# Altium integrated library Linear Technology Operational Amplifiers (LT2000-LT6000).IntLib: 1710 symbols (part 29 of 75)
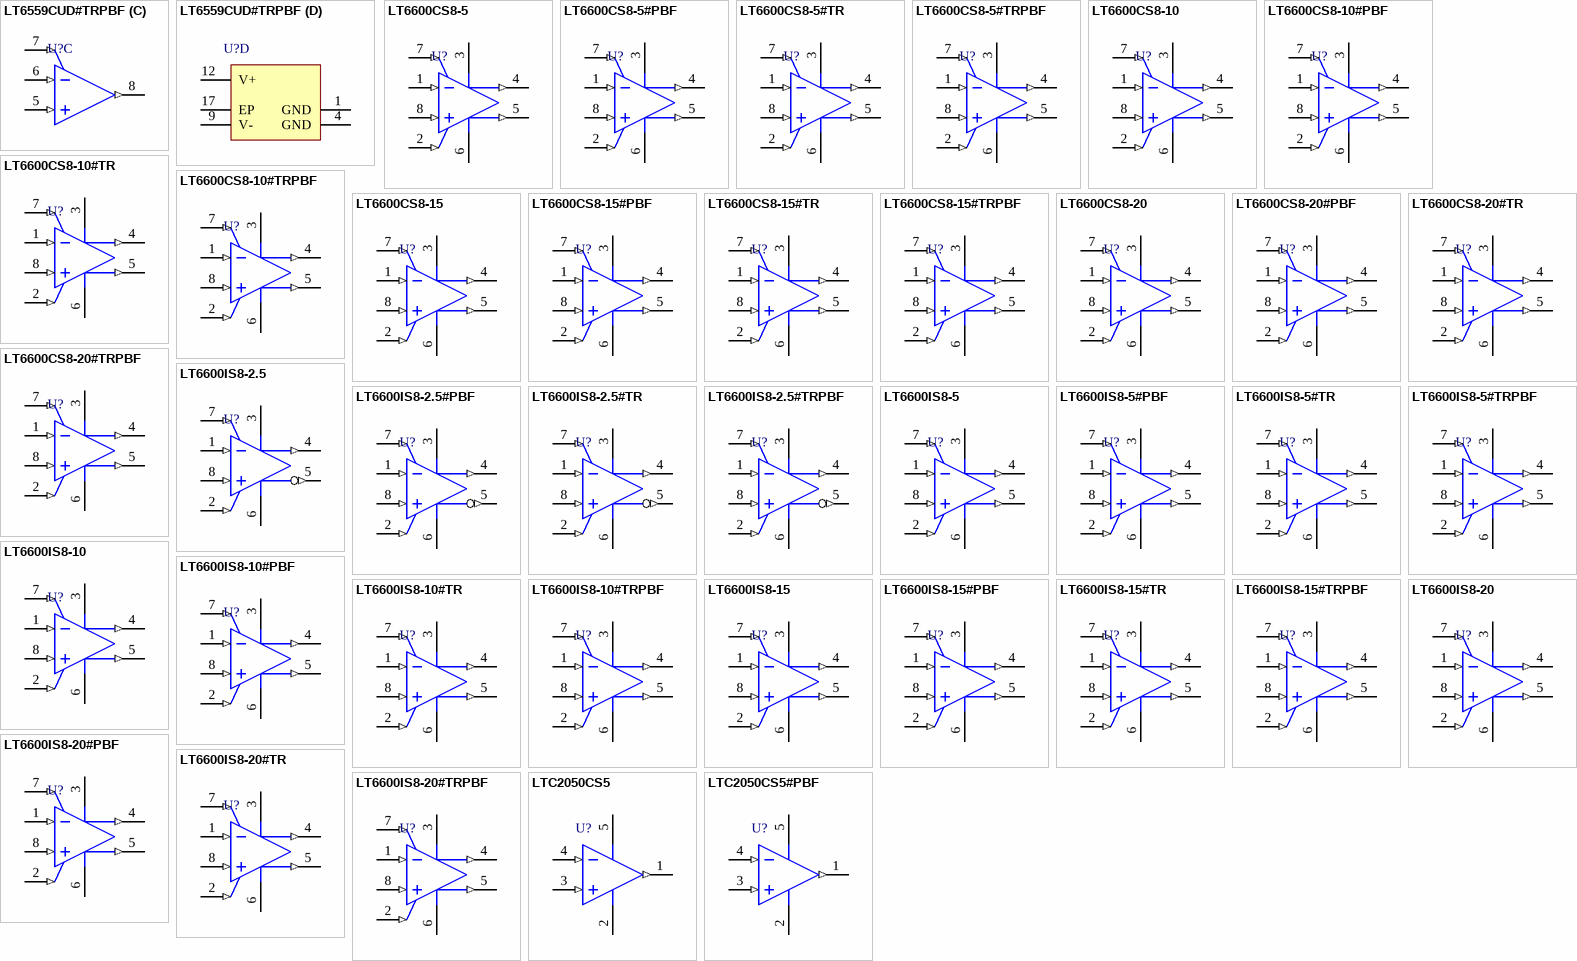
[diagram p108: symbols LT6559CUD#TRPBF to LTC2050CS5#PBF]

## LT6600IS8-15
designator U?
Single Channel, Very Low Noise, Differential Amplifier and 15 MHz Lowpass Filter, 15 MHz Typical GBW, 2.7 to 11 V, 8-Pin SOIC (S8-8), Industrial; Linear Technology Part Number: LT6600-15; Manufacturer: Linear Technology; PartNumber: LT6600IS8-15; Channels (#): 1; GBW (MHz) Typical: 15; Is (mA) Typical: 42; Vos (mV) Typical: 5; Vs Max (V): 11; Vs Min (V): 2.7; DatasheetVersion: Rev. B; PackageVersion: Rev G; PackageReference: LT-S8-8; PackageDescription: 8-Pin Plastic Small Outline, Body 4.9 x 3.9 mm, Pitch 1.27 mm; Type: DIFF; Mounting Technology: Surface Mount; ComponentLink1Description: Manufacturer URL; ComponentLink1URL: http://www.linear.com/; ComponentLink2Description: Datasheet; ComponentLink2URL: http://cds.linear.com/docs/en/datasheet/660015fb.pdf; ComponentLink3Description: Package Specification; ComponentLink3URL: http://cds.linear.com/docs/en/packaging/05081610_G_SO8.pdf
footprint LT-S8-8_N (SOIC, 8-Leads, Body 4.9x3.9mm, Pitch 1.27mm, IPC Medium Density)
footprint LT-S8-8_L (SOIC, 8-Leads, Body 4.9x3.9mm, Pitch 1.27mm, IPC High Density)
footprint LT-S8-8_M (SOIC, 8-Leads, Body 4.9x3.9mm, Pitch 1.27mm, IPC Low Density)
pins: 1 IN- (in) "Input Pins. Signals can be applied to either or both input pins through identical external resistors, RIN. The DC gain from differential inputs to the differential outputs is 1580ohm/RIN.", 2 VOCM (in) "Is the DC Common Mode Reference Voltage for the 2nd Filter Stage. Its value programs the common mode voltage of the differential output of the fi lter. This is a high impedance input, which can be driven from an external (See Datasheet)", 3 V+ (power) "Power Supply Pins. For a single 3.3V or 5V supply (V- grounded) a quality 0.1uF ceramic bypass capacitor is required from the positive supply pin (V+) to the negative supply pin (V-). The bypass should be as close as (See Datasheet)", 4 OUT+ (out) "Output Pins. These are the fi lter differential outputs. Each pin can drive a 100O and/or 50pF load to AC ground.", 5 OUT- (out) "Output Pins. These are the fi lter differential outputs. Each pin can drive a 100ohm and/or 50pF load to AC ground.", 6 V- (power) "Power Supply Pins. For a single 3.3V or 5V supply (V- grounded) a quality 0.1µF ceramic bypass capacitor is required from the positive supply pin (V+) to the negative supply pin (V-). The bypass should be as close as (See Datasheet)", 7 VMID (in) "The VMID pin is internally biased at mid-supply, see block diagram. For single-supply operation the VMID pin should be bypassed with a quality 0.01uF ceramic capacitor to V-. For dual supply operation, VMID can be bypassed (See Datasheet)", 8 IN+ (in) "Input Pins. Signals can be applied to either or both input pins through identical external resistors, RIN. The DC gain from differential inputs to the differential outputs is 1580ohm/RIN."

## LT6600IS8-15#PBF
designator U?
Single Channel, Very Low Noise, Differential Amplifier and 15 MHz Lowpass Filter, 15 MHz Typical GBW, 2.7 to 11 V, 8-Pin SOIC (S8-8), Industrial, Pb-Free; Linear Technology Part Number: LT6600-15; Manufacturer: Linear Technology; PartNumber: LT6600IS8-15#PBF; Channels (#): 1; GBW (MHz) Typical: 15; Is (mA) Typical: 42; Vos (mV) Typical: 5; Vs Max (V): 11; Vs Min (V): 2.7; DatasheetVersion: Rev. B; PackageVersion: Rev G; PackageReference: LT-S8-8; PackageDescription: 8-Pin Plastic Small Outline, Body 4.9 x 3.9 mm, Pitch 1.27 mm; Supplier 1: Digi-Key; Supplier Part Number 1: LT6600IS8-15#PBF-ND; RoHS: Pb-Free; Type: DIFF; Mounting Technology: Surface Mount; ComponentLink1Description: Manufacturer URL; ComponentLink1URL: http://www.linear.com/; ComponentLink2Description: Datasheet; ComponentLink2URL: http://cds.linear.com/docs/en/datasheet/660015fb.pdf; ComponentLink3Description: Package Specification; ComponentLink3URL: http://cds.linear.com/docs/en/packaging/05081610_G_SO8.pdf
footprint LT-S8-8_N (SOIC, 8-Leads, Body 4.9x3.9mm, Pitch 1.27mm, IPC Medium Density)
footprint LT-S8-8_L (SOIC, 8-Leads, Body 4.9x3.9mm, Pitch 1.27mm, IPC High Density)
footprint LT-S8-8_M (SOIC, 8-Leads, Body 4.9x3.9mm, Pitch 1.27mm, IPC Low Density)
pins: 1 IN- (in) "Input Pins. Signals can be applied to either or both input pins through identical external resistors, RIN. The DC gain from differential inputs to the differential outputs is 1580ohm/RIN.", 2 VOCM (in) "Is the DC Common Mode Reference Voltage for the 2nd Filter Stage. Its value programs the common mode voltage of the differential output of the fi lter. This is a high impedance input, which can be driven from an external (See Datasheet)", 3 V+ (power) "Power Supply Pins. For a single 3.3V or 5V supply (V- grounded) a quality 0.1uF ceramic bypass capacitor is required from the positive supply pin (V+) to the negative supply pin (V-). The bypass should be as close as (See Datasheet)", 4 OUT+ (out) "Output Pins. These are the fi lter differential outputs. Each pin can drive a 100O and/or 50pF load to AC ground.", 5 OUT- (out) "Output Pins. These are the fi lter differential outputs. Each pin can drive a 100ohm and/or 50pF load to AC ground.", 6 V- (power) "Power Supply Pins. For a single 3.3V or 5V supply (V- grounded) a quality 0.1µF ceramic bypass capacitor is required from the positive supply pin (V+) to the negative supply pin (V-). The bypass should be as close as (See Datasheet)", 7 VMID (in) "The VMID pin is internally biased at mid-supply, see block diagram. For single-supply operation the VMID pin should be bypassed with a quality 0.01uF ceramic capacitor to V-. For dual supply operation, VMID can be bypassed (See Datasheet)", 8 IN+ (in) "Input Pins. Signals can be applied to either or both input pins through identical external resistors, RIN. The DC gain from differential inputs to the differential outputs is 1580ohm/RIN."

## LT6600IS8-15#TR
designator U?
Single Channel, Very Low Noise, Differential Amplifier and 15 MHz Lowpass Filter, 15 MHz Typical GBW, 2.7 to 11 V, 8-Pin SOIC (S8-8), Industrial, Reel; Linear Technology Part Number: LT6600-15; Manufacturer: Linear Technology; PartNumber: LT6600IS8-15#TR; Channels (#): 1; GBW (MHz) Typical: 15; Is (mA) Typical: 42; Vos (mV) Typical: 5; Vs Max (V): 11; Vs Min (V): 2.7; DatasheetVersion: Rev. B; PackageVersion: Rev G; PackageReference: LT-S8-8; PackageDescription: 8-Pin Plastic Small Outline, Body 4.9 x 3.9 mm, Pitch 1.27 mm; Packing: Reel; Type: DIFF; Mounting Technology: Surface Mount; ComponentLink1Description: Manufacturer URL; ComponentLink1URL: http://www.linear.com/; ComponentLink2Description: Datasheet; ComponentLink2URL: http://cds.linear.com/docs/en/datasheet/660015fb.pdf; ComponentLink3Description: Package Specification; ComponentLink3URL: http://cds.linear.com/docs/en/packaging/05081610_G_SO8.pdf
footprint LT-S8-8_N (SOIC, 8-Leads, Body 4.9x3.9mm, Pitch 1.27mm, IPC Medium Density)
footprint LT-S8-8_L (SOIC, 8-Leads, Body 4.9x3.9mm, Pitch 1.27mm, IPC High Density)
footprint LT-S8-8_M (SOIC, 8-Leads, Body 4.9x3.9mm, Pitch 1.27mm, IPC Low Density)
pins: 1 IN- (in) "Input Pins. Signals can be applied to either or both input pins through identical external resistors, RIN. The DC gain from differential inputs to the differential outputs is 1580ohm/RIN.", 2 VOCM (in) "Is the DC Common Mode Reference Voltage for the 2nd Filter Stage. Its value programs the common mode voltage of the differential output of the fi lter. This is a high impedance input, which can be driven from an external (See Datasheet)", 3 V+ (power) "Power Supply Pins. For a single 3.3V or 5V supply (V- grounded) a quality 0.1uF ceramic bypass capacitor is required from the positive supply pin (V+) to the negative supply pin (V-). The bypass should be as close as (See Datasheet)", 4 OUT+ (out) "Output Pins. These are the fi lter differential outputs. Each pin can drive a 100O and/or 50pF load to AC ground.", 5 OUT- (out) "Output Pins. These are the fi lter differential outputs. Each pin can drive a 100ohm and/or 50pF load to AC ground.", 6 V- (power) "Power Supply Pins. For a single 3.3V or 5V supply (V- grounded) a quality 0.1µF ceramic bypass capacitor is required from the positive supply pin (V+) to the negative supply pin (V-). The bypass should be as close as (See Datasheet)", 7 VMID (in) "The VMID pin is internally biased at mid-supply, see block diagram. For single-supply operation the VMID pin should be bypassed with a quality 0.01uF ceramic capacitor to V-. For dual supply operation, VMID can be bypassed (See Datasheet)", 8 IN+ (in) "Input Pins. Signals can be applied to either or both input pins through identical external resistors, RIN. The DC gain from differential inputs to the differential outputs is 1580ohm/RIN."

## LT6600IS8-15#TRPBF
designator U?
Single Channel, Very Low Noise, Differential Amplifier and 15 MHz Lowpass Filter, 15 MHz Typical GBW, 2.7 to 11 V, 8-Pin SOIC (S8-8), Industrial, Pb-Free, Reel; Linear Technology Part Number: LT6600-15; Manufacturer: Linear Technology; PartNumber: LT6600IS8-15#TRPBF; Channels (#): 1; GBW (MHz) Typical: 15; Is (mA) Typical: 42; Vos (mV) Typical: 5; Vs Max (V): 11; Vs Min (V): 2.7; DatasheetVersion: Rev. B; PackageVersion: Rev G; PackageReference: LT-S8-8; PackageDescription: 8-Pin Plastic Small Outline, Body 4.9 x 3.9 mm, Pitch 1.27 mm; Supplier 1: Digi-Key; Supplier Part Number 1: LT6600IS8-15#TRPBF-ND; Packing: Reel; RoHS: Pb-Free; Type: DIFF; Mounting Technology: Surface Mount; ComponentLink1Description: Manufacturer URL; ComponentLink1URL: http://www.linear.com/; ComponentLink2Description: Datasheet; ComponentLink2URL: http://cds.linear.com/docs/en/datasheet/660015fb.pdf; ComponentLink3Description: Package Specification; ComponentLink3URL: http://cds.linear.com/docs/en/packaging/05081610_G_SO8.pdf
footprint LT-S8-8_N (SOIC, 8-Leads, Body 4.9x3.9mm, Pitch 1.27mm, IPC Medium Density)
footprint LT-S8-8_L (SOIC, 8-Leads, Body 4.9x3.9mm, Pitch 1.27mm, IPC High Density)
footprint LT-S8-8_M (SOIC, 8-Leads, Body 4.9x3.9mm, Pitch 1.27mm, IPC Low Density)
pins: 1 IN- (in) "Input Pins. Signals can be applied to either or both input pins through identical external resistors, RIN. The DC gain from differential inputs to the differential outputs is 1580ohm/RIN.", 2 VOCM (in) "Is the DC Common Mode Reference Voltage for the 2nd Filter Stage. Its value programs the common mode voltage of the differential output of the fi lter. This is a high impedance input, which can be driven from an external (See Datasheet)", 3 V+ (power) "Power Supply Pins. For a single 3.3V or 5V supply (V- grounded) a quality 0.1uF ceramic bypass capacitor is required from the positive supply pin (V+) to the negative supply pin (V-). The bypass should be as close as (See Datasheet)", 4 OUT+ (out) "Output Pins. These are the fi lter differential outputs. Each pin can drive a 100O and/or 50pF load to AC ground.", 5 OUT- (out) "Output Pins. These are the fi lter differential outputs. Each pin can drive a 100ohm and/or 50pF load to AC ground.", 6 V- (power) "Power Supply Pins. For a single 3.3V or 5V supply (V- grounded) a quality 0.1µF ceramic bypass capacitor is required from the positive supply pin (V+) to the negative supply pin (V-). The bypass should be as close as (See Datasheet)", 7 VMID (in) "The VMID pin is internally biased at mid-supply, see block diagram. For single-supply operation the VMID pin should be bypassed with a quality 0.01uF ceramic capacitor to V-. For dual supply operation, VMID can be bypassed (See Datasheet)", 8 IN+ (in) "Input Pins. Signals can be applied to either or both input pins through identical external resistors, RIN. The DC gain from differential inputs to the differential outputs is 1580ohm/RIN."

## LT6600IS8-20
designator U?
Single Channel, Very Low Noise, Differential Amplifier and 20 MHz Lowpass Filter, 20 MHz Typical GBW, 2.7 to 11 V, 8-Pin SOIC (S8-8), Industrial; Linear Technology Part Number: LT6600-20; Manufacturer: Linear Technology; PartNumber: LT6600IS8-20; Channels (#): 1; GBW (MHz) Typical: 20; Is (mA) Typical: 42; Vos (mV) Typical: 5; Vs Max (V): 11; Vs Min (V): 2.7; DatasheetVersion: Rev. B; PackageVersion: Rev G; PackageReference: LT-S8-8; PackageDescription: 8-Pin Plastic Small Outline, Body 4.9 x 3.9 mm, Pitch 1.27 mm; Supplier 1: Digi-Key; Supplier Part Number 1: LT6600IS8-20-ND; Type: DIFF; Mounting Technology: Surface Mount; ComponentLink1Description: Manufacturer URL; ComponentLink1URL: http://www.linear.com/; ComponentLink2Description: Datasheet; ComponentLink2URL: http://cds.linear.com/docs/en/datasheet/66002fb.pdf; ComponentLink3Description: Package Specification; ComponentLink3URL: http://cds.linear.com/docs/en/packaging/05081610_G_SO8.pdf
footprint LT-S8-8_N (SOIC, 8-Leads, Body 4.9x3.9mm, Pitch 1.27mm, IPC Medium Density)
footprint LT-S8-8_L (SOIC, 8-Leads, Body 4.9x3.9mm, Pitch 1.27mm, IPC High Density)
footprint LT-S8-8_M (SOIC, 8-Leads, Body 4.9x3.9mm, Pitch 1.27mm, IPC Low Density)
pins: 1 IN- (in) "Input Pins. Signals can be applied to either or both input pins through identical external resistors, RIN. The DC gain from differential inputs to the differential outputs is 402ohm/RIN.", 2 VOCM (in) "Is the DC Common Mode Reference Voltage for the 2nd Filter Stage. Its value programs the common mode voltage of the differential output of the fi lter. Pin 2 is a high impedance input, which can be driven from an external (See Datasheet)", 3 V+ (power) "Power Supply Pins. For a single 3.3V or 5V supply (Pin 6 grounded) a quality 0.1uF ceramic bypass capacitor is required from the positive supply pin (Pin 3) to the negative supply pin (Pin 6). The bypass should be as close (See Datasheet)", 4 OUT+ (out) "Output Pins. Pins 4 and 5 are the filter differential outputs. Each pin can drive a 100ohm and/or 50pF load.", 5 OUT- (out) "Output Pins. Pins 4 and 5 are the filter differential outputs. Each pin can drive a 100ohm and/or 50pF load.", 6 V- (power) "Power Supply Pins. For a single 3.3V or 5V supply (Pin 6 grounded) a quality 0.1uF ceramic bypass capacitor is required from the positive supply pin (Pin 3) to the negative supply pin (Pin 6). The bypass should be as close (See Datasheet)", 7 VMID (in) "The VMID pin is internally biased at mid-supply, see Block Diagram. For single supply operation, the VMID pin should be bypassed with a quality 0.01uF ceramic capacitor to V-. For dual supply operation, VMID can be bypassed (See Datasheet)", 8 IN+ (in) "Input Pins. Signals can be applied to either or both input pins through identical external resistors, RIN. The DC gain from differential inputs to the differential outputs is 402ohm/RIN."

## LT6600IS8-20#PBF
designator U?
Single Channel, Very Low Noise, Differential Amplifier and 20 MHz Lowpass Filter, 20 MHz Typical GBW, 2.7 to 11 V, 8-Pin SOIC (S8-8), Industrial, Pb-Free; Linear Technology Part Number: LT6600-20; Manufacturer: Linear Technology; PartNumber: LT6600IS8-20#PBF; Channels (#): 1; GBW (MHz) Typical: 20; Is (mA) Typical: 42; Vos (mV) Typical: 5; Vs Max (V): 11; Vs Min (V): 2.7; DatasheetVersion: Rev. B; PackageVersion: Rev G; PackageReference: LT-S8-8; PackageDescription: 8-Pin Plastic Small Outline, Body 4.9 x 3.9 mm, Pitch 1.27 mm; Supplier 1: Digi-Key; Supplier Part Number 1: LT6600IS8-20#PBF-ND; Supplier 2: Farnell; Supplier Part Number 2: 1345587; Supplier 3: Newark; Supplier Part Number 3: 57M9588; RoHS: Pb-Free; Type: DIFF; Mounting Technology: Surface Mount; ComponentLink1Description: Manufacturer URL; ComponentLink1URL: http://www.linear.com/; ComponentLink2Description: Datasheet; ComponentLink2URL: http://cds.linear.com/docs/en/datasheet/66002fb.pdf; ComponentLink3Description: Package Specification; ComponentLink3URL: http://cds.linear.com/docs/en/packaging/05081610_G_SO8.pdf
footprint LT-S8-8_N (SOIC, 8-Leads, Body 4.9x3.9mm, Pitch 1.27mm, IPC Medium Density)
footprint LT-S8-8_L (SOIC, 8-Leads, Body 4.9x3.9mm, Pitch 1.27mm, IPC High Density)
footprint LT-S8-8_M (SOIC, 8-Leads, Body 4.9x3.9mm, Pitch 1.27mm, IPC Low Density)
pins: 1 IN- (in) "Input Pins. Signals can be applied to either or both input pins through identical external resistors, RIN. The DC gain from differential inputs to the differential outputs is 402ohm/RIN.", 2 VOCM (in) "Is the DC Common Mode Reference Voltage for the 2nd Filter Stage. Its value programs the common mode voltage of the differential output of the fi lter. Pin 2 is a high impedance input, which can be driven from an external (See Datasheet)", 3 V+ (power) "Power Supply Pins. For a single 3.3V or 5V supply (Pin 6 grounded) a quality 0.1uF ceramic bypass capacitor is required from the positive supply pin (Pin 3) to the negative supply pin (Pin 6). The bypass should be as close (See Datasheet)", 4 OUT+ (out) "Output Pins. Pins 4 and 5 are the filter differential outputs. Each pin can drive a 100ohm and/or 50pF load.", 5 OUT- (out) "Output Pins. Pins 4 and 5 are the filter differential outputs. Each pin can drive a 100ohm and/or 50pF load.", 6 V- (power) "Power Supply Pins. For a single 3.3V or 5V supply (Pin 6 grounded) a quality 0.1uF ceramic bypass capacitor is required from the positive supply pin (Pin 3) to the negative supply pin (Pin 6). The bypass should be as close (See Datasheet)", 7 VMID (in) "The VMID pin is internally biased at mid-supply, see Block Diagram. For single supply operation, the VMID pin should be bypassed with a quality 0.01uF ceramic capacitor to V-. For dual supply operation, VMID can be bypassed (See Datasheet)", 8 IN+ (in) "Input Pins. Signals can be applied to either or both input pins through identical external resistors, RIN. The DC gain from differential inputs to the differential outputs is 402ohm/RIN."

## LT6600IS8-20#TR
designator U?
Single Channel, Very Low Noise, Differential Amplifier and 20 MHz Lowpass Filter, 20 MHz Typical GBW, 2.7 to 11 V, 8-Pin SOIC (S8-8), Industrial, Reel; Linear Technology Part Number: LT6600-20; Manufacturer: Linear Technology; PartNumber: LT6600IS8-20#TR; Channels (#): 1; GBW (MHz) Typical: 20; Is (mA) Typical: 42; Vos (mV) Typical: 5; Vs Max (V): 11; Vs Min (V): 2.7; DatasheetVersion: Rev. B; PackageVersion: Rev G; PackageReference: LT-S8-8; PackageDescription: 8-Pin Plastic Small Outline, Body 4.9 x 3.9 mm, Pitch 1.27 mm; Supplier 1: Digi-Key; Supplier Part Number 1: LT6600IS8-20#TR-ND; Packing: Reel; Type: DIFF; Mounting Technology: Surface Mount; ComponentLink1Description: Manufacturer URL; ComponentLink1URL: http://www.linear.com/; ComponentLink2Description: Datasheet; ComponentLink2URL: http://cds.linear.com/docs/en/datasheet/66002fb.pdf; ComponentLink3Description: Package Specification; ComponentLink3URL: http://cds.linear.com/docs/en/packaging/05081610_G_SO8.pdf
footprint LT-S8-8_N (SOIC, 8-Leads, Body 4.9x3.9mm, Pitch 1.27mm, IPC Medium Density)
footprint LT-S8-8_L (SOIC, 8-Leads, Body 4.9x3.9mm, Pitch 1.27mm, IPC High Density)
footprint LT-S8-8_M (SOIC, 8-Leads, Body 4.9x3.9mm, Pitch 1.27mm, IPC Low Density)
pins: 1 IN- (in) "Input Pins. Signals can be applied to either or both input pins through identical external resistors, RIN. The DC gain from differential inputs to the differential outputs is 402ohm/RIN.", 2 VOCM (in) "Is the DC Common Mode Reference Voltage for the 2nd Filter Stage. Its value programs the common mode voltage of the differential output of the fi lter. Pin 2 is a high impedance input, which can be driven from an external (See Datasheet)", 3 V+ (power) "Power Supply Pins. For a single 3.3V or 5V supply (Pin 6 grounded) a quality 0.1uF ceramic bypass capacitor is required from the positive supply pin (Pin 3) to the negative supply pin (Pin 6). The bypass should be as close (See Datasheet)", 4 OUT+ (out) "Output Pins. Pins 4 and 5 are the filter differential outputs. Each pin can drive a 100ohm and/or 50pF load.", 5 OUT- (out) "Output Pins. Pins 4 and 5 are the filter differential outputs. Each pin can drive a 100ohm and/or 50pF load.", 6 V- (power) "Power Supply Pins. For a single 3.3V or 5V supply (Pin 6 grounded) a quality 0.1uF ceramic bypass capacitor is required from the positive supply pin (Pin 3) to the negative supply pin (Pin 6). The bypass should be as close (See Datasheet)", 7 VMID (in) "The VMID pin is internally biased at mid-supply, see Block Diagram. For single supply operation, the VMID pin should be bypassed with a quality 0.01uF ceramic capacitor to V-. For dual supply operation, VMID can be bypassed (See Datasheet)", 8 IN+ (in) "Input Pins. Signals can be applied to either or both input pins through identical external resistors, RIN. The DC gain from differential inputs to the differential outputs is 402ohm/RIN."

## LT6600IS8-20#TRPBF
designator U?
Single Channel, Very Low Noise, Differential Amplifier and 20 MHz Lowpass Filter, 20 MHz Typical GBW, 2.7 to 11 V, 8-Pin SOIC (S8-8), Industrial, Pb-Free, Reel; Linear Technology Part Number: LT6600-5; Manufacturer: Linear Technology; PartNumber: LT6600IS8-20#TRPBF; Channels (#): 1; GBW (MHz) Typical: 5; Is (mA) Typical: 28; Vs Max (V): 11; Vs Min (V): 2.7; DatasheetVersion: Rev. B; PackageVersion: Rev G; PackageReference: LT-S8-8; PackageDescription: 8-Pin Plastic Small Outline, Body 4.9 x 3.9 mm, Pitch 1.27 mm; Supplier 1: Digi-Key; Supplier Part Number 1: LT6600IS8-20#TRPBF-ND; Packing: Reel; RoHS: Pb-Free; Type: DIFF; Vos (mV) Typical: 5; Mounting Technology: Surface Mount; ComponentLink1Description: Manufacturer URL; ComponentLink1URL: http://www.linear.com/; ComponentLink2Description: Datasheet; ComponentLink2URL: http://cds.linear.com/docs/en/datasheet/66002fb.pdf; ComponentLink3Description: Package Specification; ComponentLink3URL: http://cds.linear.com/docs/en/packaging/05081610_G_SO8.pdf
footprint LT-S8-8_N (SOIC, 8-Leads, Body 4.9x3.9mm, Pitch 1.27mm, IPC Medium Density)
footprint LT-S8-8_L (SOIC, 8-Leads, Body 4.9x3.9mm, Pitch 1.27mm, IPC High Density)
footprint LT-S8-8_M (SOIC, 8-Leads, Body 4.9x3.9mm, Pitch 1.27mm, IPC Low Density)
pins: 1 IN- (in) "Input Pins. Signals can be applied to either or both input pins through identical external resistors, RIN. The DC gain from differential inputs to the differential outputs is 402ohm/RIN.", 2 VOCM (in) "Is the DC Common Mode Reference Voltage for the 2nd Filter Stage. Its value programs the common mode voltage of the differential output of the fi lter. Pin 2 is a high impedance input, which can be driven from an external (See Datasheet)", 3 V+ (power) "Power Supply Pins. For a single 3.3V or 5V supply (Pin 6 grounded) a quality 0.1uF ceramic bypass capacitor is required from the positive supply pin (Pin 3) to the negative supply pin (Pin 6). The bypass should be as close (See Datasheet)", 4 OUT+ (out) "Output Pins. Pins 4 and 5 are the filter differential outputs. Each pin can drive a 100ohm and/or 50pF load.", 5 OUT- (out) "Output Pins. Pins 4 and 5 are the filter differential outputs. Each pin can drive a 100ohm and/or 50pF load.", 6 V- (power) "Power Supply Pins. For a single 3.3V or 5V supply (Pin 6 grounded) a quality 0.1uF ceramic bypass capacitor is required from the positive supply pin (Pin 3) to the negative supply pin (Pin 6). The bypass should be as close (See Datasheet)", 7 VMID (in) "The VMID pin is internally biased at mid-supply, see Block Diagram. For single supply operation, the VMID pin should be bypassed with a quality 0.01uF ceramic capacitor to V-. For dual supply operation, VMID can be bypassed (See Datasheet)", 8 IN+ (in) "Input Pins. Signals can be applied to either or both input pins through identical external resistors, RIN. The DC gain from differential inputs to the differential outputs is 402ohm/RIN."

## LTC2050CS5
designator U?
Single Channel, Zero-Drift Operational Amplifier, 3 MHz Typical GBW, 2 V/us Typical SR, 2.7 to 6 V, 5-Pin SOT23 (S5-5), Commercial; Linear Technology Part Number: LTC2050; Manufacturer: Linear Technology; PartNumber: LTC2050CS5; Channels (#): 1; GBW (MHz) Typical: 3; Is (mA) Typical: 0.8; SR (V/us) Typical: 2; Vos (mV) Typical: 0.0005; Vs Max (V): 6; Vs Min (V): 2.7; DatasheetVersion: Rev C; PackageReference: LT-S5-5-TSOT-23; PackageDescription: 5-Lead Plastic TSOT-23, Body 1.63 x 2.90 mm, Pitch 0.95 mm; Type: ZD; Mounting Technology: Surface Mount; Code_JEDEC: MO-193; ComponentLink1Description: Manufacturer URL; ComponentLink1URL: http://www.linear.com/; ComponentLink2Description: Datasheet; ComponentLink2URL: http://cds.linear.com/docs/en/datasheet/2050fc.pdf; ComponentLink3Description: Package Specification; ComponentLink3URL: http://cds.linear.com/docs/en/packaging/SOT_5_05-08-1635.pdf
footprint LT-S5-5-TSOT-23_N (SOT23, 5-Leads, Body 2.90x1.63mm, Pitch 0.95mm, IPC Medium Density)
footprint LT-S5-5-TSOT-23_L (SOT23, 5-Leads, Body 2.90x1.63mm, Pitch 0.95mm, IPC High Density)
footprint LT-S5-5-TSOT-23_M (SOT23, 5-Leads, Body 2.90x1.63mm, Pitch 0.95mm, IPC Low Density)
pins: 1 OUT (out) "Output.", 2 V- (power) "Negative Supply Voltage, Usually -5V.", 3 +IN (in) "Noninverting Input.", 4 -IN (in) "Inverting Input.", 5 V+ (power) "Positive Supply Voltage, Usually 5V."

## LTC2050CS5#PBF
designator U?
Single Channel, Zero-Drift Operational Amplifier, 3 MHz Typical GBW, 2 V/us Typical SR, 2.7 to 6 V, 5-Pin SOT23 (S5-5), Commercial, Pb-Free; Linear Technology Part Number: LTC2050; Manufacturer: Linear Technology; PartNumber: LTC2050CS5#PBF; Channels (#): 1; GBW (MHz) Typical: 3; Is (mA) Typical: 0.8; SR (V/us) Typical: 2; Vos (mV) Typical: 0.0005; Vs Max (V): 6; Vs Min (V): 2.7; DatasheetVersion: Rev C; PackageReference: LT-S5-5-TSOT-23; PackageDescription: 5-Lead Plastic TSOT-23, Body 1.63 x 2.90 mm, Pitch 0.95 mm; RoHS: Pb-Free; Type: ZD; Mounting Technology: Surface Mount; Code_JEDEC: MO-193; ComponentLink1Description: Manufacturer URL; ComponentLink1URL: http://www.linear.com/; ComponentLink2Description: Datasheet; ComponentLink2URL: http://cds.linear.com/docs/en/datasheet/2050fc.pdf; ComponentLink3Description: Package Specification; ComponentLink3URL: http://cds.linear.com/docs/en/packaging/SOT_5_05-08-1635.pdf
footprint LT-S5-5-TSOT-23_N (SOT23, 5-Leads, Body 2.90x1.63mm, Pitch 0.95mm, IPC Medium Density)
footprint LT-S5-5-TSOT-23_L (SOT23, 5-Leads, Body 2.90x1.63mm, Pitch 0.95mm, IPC High Density)
footprint LT-S5-5-TSOT-23_M (SOT23, 5-Leads, Body 2.90x1.63mm, Pitch 0.95mm, IPC Low Density)
pins: 1 OUT (out) "Output.", 2 V- (power) "Negative Supply Voltage, Usually -5V.", 3 +IN (in) "Noninverting Input.", 4 -IN (in) "Inverting Input.", 5 V+ (power) "Positive Supply Voltage, Usually 5V."

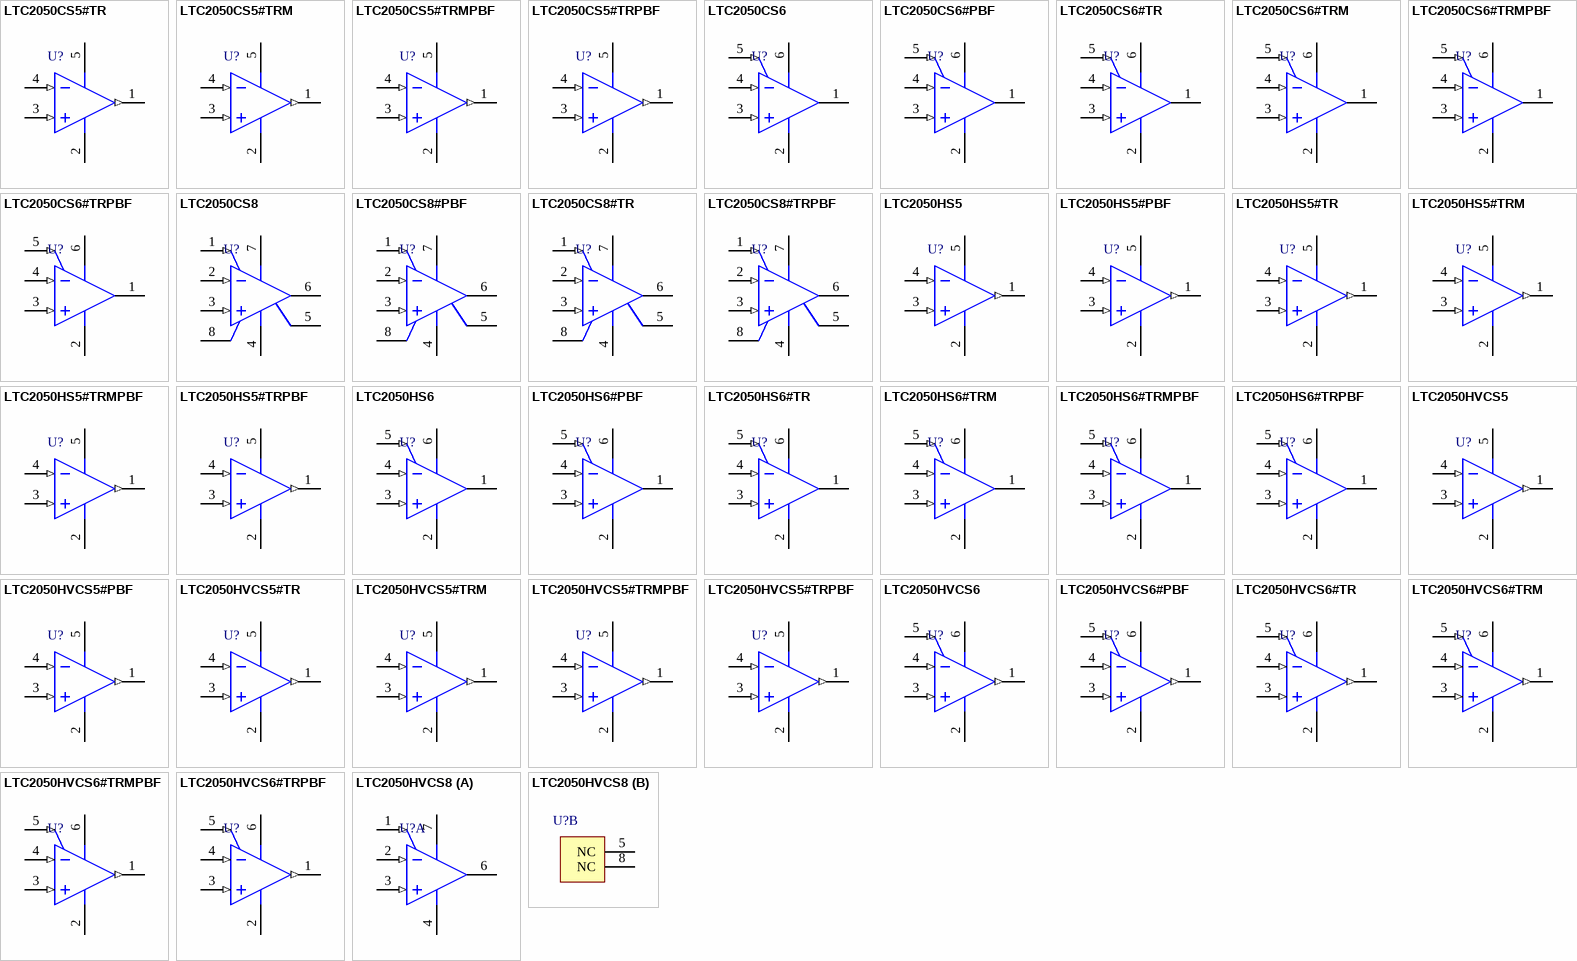
[diagram p36: symbols LTC2050CS5#TR to LTC2050HVCS8]

## LTC2050CS5#TR
designator U?
Single Channel, Zero-Drift Operational Amplifier, 3 MHz Typical GBW, 2 V/us Typical SR, 2.7 to 6 V, 5-Pin SOT23 (S5-5), Commercial, Reel; Linear Technology Part Number: LTC2050; Manufacturer: Linear Technology; PartNumber: LTC2050CS5#TR; Channels (#): 1; GBW (MHz) Typical: 3; Is (mA) Typical: 0.8; SR (V/us) Typical: 2; Vos (mV) Typical: 0.0005; Vs Max (V): 6; Vs Min (V): 2.7; DatasheetVersion: Rev C; PackageReference: LT-S5-5-TSOT-23; PackageDescription: 5-Lead Plastic TSOT-23, Body 1.63 x 2.90 mm, Pitch 0.95 mm; Supplier 1: Digi-Key; Supplier Part Number 1: LTC2050CS5#TR-ND; Packing: Reel; Type: ZD; Mounting Technology: Surface Mount; Code_JEDEC: MO-193; ComponentLink1Description: Manufacturer URL; ComponentLink1URL: http://www.linear.com/; ComponentLink2Description: Datasheet; ComponentLink2URL: http://cds.linear.com/docs/en/datasheet/2050fc.pdf; ComponentLink3Description: Package Specification; ComponentLink3URL: http://cds.linear.com/docs/en/packaging/SOT_5_05-08-1635.pdf
footprint LT-S5-5-TSOT-23_N (SOT23, 5-Leads, Body 2.90x1.63mm, Pitch 0.95mm, IPC Medium Density)
footprint LT-S5-5-TSOT-23_L (SOT23, 5-Leads, Body 2.90x1.63mm, Pitch 0.95mm, IPC High Density)
footprint LT-S5-5-TSOT-23_M (SOT23, 5-Leads, Body 2.90x1.63mm, Pitch 0.95mm, IPC Low Density)
pins: 1 OUT (out) "Output.", 2 V- (power) "Negative Supply Voltage, Usually -5V.", 3 +IN (in) "Noninverting Input.", 4 -IN (in) "Inverting Input.", 5 V+ (power) "Positive Supply Voltage, Usually 5V."

## LTC2050CS5#TRM
designator U?
Single Channel, Zero-Drift Operational Amplifier, 3 MHz Typical GBW, 2 V/us Typical SR, 2.7 to 6 V, 5-Pin SOT23 (S5-5), Commercial, Mini Reel; Linear Technology Part Number: LTC2050; Manufacturer: Linear Technology; PartNumber: LTC2050CS5#TRM; Channels (#): 1; GBW (MHz) Typical: 3; Is (mA) Typical: 0.8; SR (V/us) Typical: 2; Vos (mV) Typical: 0.0005; Vs Max (V): 6; Vs Min (V): 2.7; DatasheetVersion: Rev C; PackageReference: LT-S5-5-TSOT-23; PackageDescription: 5-Lead Plastic TSOT-23, Body 1.63 x 2.90 mm, Pitch 0.95 mm; Supplier 1: Digi-Key; Supplier Part Number 1: LTC2050CS5#TRM-ND; Packing: Mini Reel; Type: ZD; Mounting Technology: Surface Mount; Code_JEDEC: MO-193; ComponentLink1Description: Manufacturer URL; ComponentLink1URL: http://www.linear.com/; ComponentLink2Description: Datasheet; ComponentLink2URL: http://cds.linear.com/docs/en/datasheet/2050fc.pdf; ComponentLink3Description: Package Specification; ComponentLink3URL: http://cds.linear.com/docs/en/packaging/SOT_5_05-08-1635.pdf
footprint LT-S5-5-TSOT-23_N (SOT23, 5-Leads, Body 2.90x1.63mm, Pitch 0.95mm, IPC Medium Density)
footprint LT-S5-5-TSOT-23_L (SOT23, 5-Leads, Body 2.90x1.63mm, Pitch 0.95mm, IPC High Density)
footprint LT-S5-5-TSOT-23_M (SOT23, 5-Leads, Body 2.90x1.63mm, Pitch 0.95mm, IPC Low Density)
pins: 1 OUT (out) "Output.", 2 V- (power) "Negative Supply Voltage, Usually -5V.", 3 +IN (in) "Noninverting Input.", 4 -IN (in) "Inverting Input.", 5 V+ (power) "Positive Supply Voltage, Usually 5V."

## LTC2050CS5#TRMPBF
designator U?
Single Channel, Zero-Drift Operational Amplifier, 3 MHz Typical GBW, 2 V/us Typical SR, 2.7 to 6 V, 5-Pin SOT23 (S5-5), Commercial, Pb-Free, Mini Reel; Linear Technology Part Number: LTC2050; Manufacturer: Linear Technology; PartNumber: LTC2050CS5#TRMPBF; Channels (#): 1; GBW (MHz) Typical: 3; Is (mA) Typical: 0.8; SR (V/us) Typical: 2; Vos (mV) Typical: 0.0005; Vs Max (V): 6; Vs Min (V): 2.7; DatasheetVersion: Rev C; PackageReference: LT-S5-5-TSOT-23; PackageDescription: 5-Lead Plastic TSOT-23, Body 1.63 x 2.90 mm, Pitch 0.95 mm; Supplier 1: Digi-Key; Supplier Part Number 1: LTC2050CS5#TRMPBFTR-ND; Supplier 2: Digi-Key; Supplier Part Number 2: LTC2050CS5#TRMPBFCT-ND; Supplier 3: Digi-Key; Supplier Part Number 3: LTC2050CS5#TRMPBFDKR-ND; Supplier 4: Farnell; Supplier Part Number 4: 1663874; Packing: Mini Reel; RoHS: Pb-Free; Type: ZD; Mounting Technology: Surface Mount; Code_JEDEC: MO-193; ComponentLink1Description: Manufacturer URL; ComponentLink1URL: http://www.linear.com/; ComponentLink2Description: Datasheet; ComponentLink2URL: http://cds.linear.com/docs/en/datasheet/2050fc.pdf; ComponentLink3Description: Package Specification; ComponentLink3URL: http://cds.linear.com/docs/en/packaging/SOT_5_05-08-1635.pdf
footprint LT-S5-5-TSOT-23_N (SOT23, 5-Leads, Body 2.90x1.63mm, Pitch 0.95mm, IPC Medium Density)
footprint LT-S5-5-TSOT-23_L (SOT23, 5-Leads, Body 2.90x1.63mm, Pitch 0.95mm, IPC High Density)
footprint LT-S5-5-TSOT-23_M (SOT23, 5-Leads, Body 2.90x1.63mm, Pitch 0.95mm, IPC Low Density)
pins: 1 OUT (out) "Output.", 2 V- (power) "Negative Supply Voltage, Usually -5V.", 3 +IN (in) "Noninverting Input.", 4 -IN (in) "Inverting Input.", 5 V+ (power) "Positive Supply Voltage, Usually 5V."

## LTC2050CS5#TRPBF
designator U?
Single Channel, Zero-Drift Operational Amplifier, 3 MHz Typical GBW, 2 V/us Typical SR, 2.7 to 6 V, 5-Pin SOT23 (S5-5), Commercial, Pb-Free, Reel; Linear Technology Part Number: LTC2050; Manufacturer: Linear Technology; PartNumber: LTC2050CS5#TRPBF; Channels (#): 1; GBW (MHz) Typical: 3; Is (mA) Typical: 0.8; SR (V/us) Typical: 2; Vos (mV) Typical: 0.0005; Vs Max (V): 6; Vs Min (V): 2.7; DatasheetVersion: Rev C; PackageReference: LT-S5-5-TSOT-23; PackageDescription: 5-Lead Plastic TSOT-23, Body 1.63 x 2.90 mm, Pitch 0.95 mm; Supplier 1: Digi-Key; Supplier Part Number 1: LTC2050CS5#TRPBF-ND; Packing: Reel; RoHS: Pb-Free; Type: ZD; Mounting Technology: Surface Mount; Code_JEDEC: MO-193; ComponentLink1Description: Manufacturer URL; ComponentLink1URL: http://www.linear.com/; ComponentLink2Description: Datasheet; ComponentLink2URL: http://cds.linear.com/docs/en/datasheet/2050fc.pdf; ComponentLink3Description: Package Specification; ComponentLink3URL: http://cds.linear.com/docs/en/packaging/SOT_5_05-08-1635.pdf
footprint LT-S5-5-TSOT-23_N (SOT23, 5-Leads, Body 2.90x1.63mm, Pitch 0.95mm, IPC Medium Density)
footprint LT-S5-5-TSOT-23_L (SOT23, 5-Leads, Body 2.90x1.63mm, Pitch 0.95mm, IPC High Density)
footprint LT-S5-5-TSOT-23_M (SOT23, 5-Leads, Body 2.90x1.63mm, Pitch 0.95mm, IPC Low Density)
pins: 1 OUT (out) "Output.", 2 V- (power) "Negative Supply Voltage, Usually -5V.", 3 +IN (in) "Noninverting Input.", 4 -IN (in) "Inverting Input.", 5 V+ (power) "Positive Supply Voltage, Usually 5V."

## LTC2050CS6
designator U?
Single Channel, Zero-Drift Operational Amplifier, 3 MHz Typical GBW, 2 V/us Typical SR, 2.7 to 6 V, 6-Pin SOT23 (S6-6), Commercial; Linear Technology Part Number: LTC2050; Manufacturer: Linear Technology; PartNumber: LTC2050CS6; Channels (#): 1; GBW (MHz) Typical: 3; Is (mA) Typical: 0.8; SR (V/us) Typical: 2; Vos (mV) Typical: 0.0005; Vs Max (V): 6; Vs Min (V): 2.7; DatasheetVersion: Rev C; PackageReference: LT-S6-6-TSOT-23; PackageDescription: 6-Pin Plastic TSOT-23, Body 2.9 x 1.63 mm, Pitch 0.95 mm; Type: ZD; Mounting Technology: Surface Mount; Code_JEDEC: MO-193; ComponentLink1Description: Manufacturer URL; ComponentLink1URL: http://www.linear.com/; ComponentLink2Description: Datasheet; ComponentLink2URL: http://cds.linear.com/docs/en/datasheet/2050fc.pdf; ComponentLink3Description: Package Specification; ComponentLink3URL: http://cds.linear.com/docs/en/packaging/SOT_6_05-08-1636.pdf
footprint LT-S6-6-TSOT-23_N (SOT23, 6-Leads, Body 2.90x1.63mm, Pitch 0.95mm, IPC Medium Density)
footprint LT-S6-6-TSOT-23_L (SOT23, 6-Leads, Body 2.90x1.63mm, Pitch 0.95mm, IPC High Density)
footprint LT-S6-6-TSOT-23_M (SOT23, 6-Leads, Body 2.90x1.63mm, Pitch 0.95mm, IPC Low Density)
pins: 1 OUT (hiz), 2 V- (power), 3 +IN (in), 4 -IN (in), 5 ~{SHDN} (in), 6 V+ (power)

## LTC2050CS6#PBF
designator U?
Single Channel, Zero-Drift Operational Amplifier, 3 MHz Typical GBW, 2 V/us Typical SR, 2.7 to 6 V, 6-Pin SOT23 (S6-6), Commercial, Pb-Free; Linear Technology Part Number: LTC2050; Manufacturer: Linear Technology; PartNumber: LTC2050CS6#PBF; Channels (#): 1; GBW (MHz) Typical: 3; Is (mA) Typical: 0.8; SR (V/us) Typical: 2; Vos (mV) Typical: 0.0005; Vs Max (V): 6; Vs Min (V): 2.7; DatasheetVersion: Rev C; PackageReference: LT-S6-6-TSOT-23; PackageDescription: 6-Pin Plastic TSOT-23, Body 2.9 x 1.63 mm, Pitch 0.95 mm; Supplier 1: Farnell; Supplier Part Number 1: 2294713; RoHS: Pb-Free; Type: ZD; Mounting Technology: Surface Mount; Code_JEDEC: MO-193; ComponentLink1Description: Manufacturer URL; ComponentLink1URL: http://www.linear.com/; ComponentLink2Description: Datasheet; ComponentLink2URL: http://cds.linear.com/docs/en/datasheet/2050fc.pdf; ComponentLink3Description: Package Specification; ComponentLink3URL: http://cds.linear.com/docs/en/packaging/SOT_6_05-08-1636.pdf
footprint LT-S6-6-TSOT-23_N (SOT23, 6-Leads, Body 2.90x1.63mm, Pitch 0.95mm, IPC Medium Density)
footprint LT-S6-6-TSOT-23_L (SOT23, 6-Leads, Body 2.90x1.63mm, Pitch 0.95mm, IPC High Density)
footprint LT-S6-6-TSOT-23_M (SOT23, 6-Leads, Body 2.90x1.63mm, Pitch 0.95mm, IPC Low Density)
pins: 1 OUT (hiz), 2 V- (power), 3 +IN (in), 4 -IN (in), 5 ~{SHDN} (in), 6 V+ (power)

## LTC2050CS6#TR
designator U?
Single Channel, Zero-Drift Operational Amplifier, 3 MHz Typical GBW, 2 V/us Typical SR, 2.7 to 6 V, 6-Pin SOT23 (S6-6), Commercial, Reel; Linear Technology Part Number: LTC2050; Manufacturer: Linear Technology; PartNumber: LTC2050CS6#TR; Channels (#): 1; GBW (MHz) Typical: 3; Is (mA) Typical: 0.8; SR (V/us) Typical: 2; Vos (mV) Typical: 0.0005; Vs Max (V): 6; Vs Min (V): 2.7; DatasheetVersion: Rev C; PackageReference: LT-S6-6-TSOT-23; PackageDescription: 6-Pin Plastic TSOT-23, Body 2.9 x 1.63 mm, Pitch 0.95 mm; Supplier 1: Digi-Key; Supplier Part Number 1: LTC2050CS6#TR-ND; Packing: Reel; Type: ZD; Mounting Technology: Surface Mount; Code_JEDEC: MO-193; ComponentLink1Description: Manufacturer URL; ComponentLink1URL: http://www.linear.com/; ComponentLink2Description: Datasheet; ComponentLink2URL: http://cds.linear.com/docs/en/datasheet/2050fc.pdf; ComponentLink3Description: Package Specification; ComponentLink3URL: http://cds.linear.com/docs/en/packaging/SOT_6_05-08-1636.pdf
footprint LT-S6-6-TSOT-23_N (SOT23, 6-Leads, Body 2.90x1.63mm, Pitch 0.95mm, IPC Medium Density)
footprint LT-S6-6-TSOT-23_L (SOT23, 6-Leads, Body 2.90x1.63mm, Pitch 0.95mm, IPC High Density)
footprint LT-S6-6-TSOT-23_M (SOT23, 6-Leads, Body 2.90x1.63mm, Pitch 0.95mm, IPC Low Density)
pins: 1 OUT (hiz), 2 V- (power), 3 +IN (in), 4 -IN (in), 5 ~{SHDN} (in), 6 V+ (power)

## LTC2050CS6#TRM
designator U?
Single Channel, Zero-Drift Operational Amplifier, 3 MHz Typical GBW, 2 V/us Typical SR, 2.7 to 6 V, 6-Pin SOT23 (S6-6), Commercial, Mini Reel; Linear Technology Part Number: LTC2050; Manufacturer: Linear Technology; PartNumber: LTC2050CS6#TRM; Channels (#): 1; GBW (MHz) Typical: 3; Is (mA) Typical: 0.8; SR (V/us) Typical: 2; Vos (mV) Typical: 0.0005; Vs Max (V): 6; Vs Min (V): 2.7; DatasheetVersion: Rev C; PackageReference: LT-S6-6-TSOT-23; PackageDescription: 6-Pin Plastic TSOT-23, Body 2.9 x 1.63 mm, Pitch 0.95 mm; Supplier 1: Digi-Key; Supplier Part Number 1: LTC2050CS6#TRM-ND; Packing: Mini Reel; Type: ZD; Mounting Technology: Surface Mount; Code_JEDEC: MO-193; ComponentLink1Description: Manufacturer URL; ComponentLink1URL: http://www.linear.com/; ComponentLink2Description: Datasheet; ComponentLink2URL: http://cds.linear.com/docs/en/datasheet/2050fc.pdf; ComponentLink3Description: Package Specification; ComponentLink3URL: http://cds.linear.com/docs/en/packaging/SOT_6_05-08-1636.pdf
footprint LT-S6-6-TSOT-23_N (SOT23, 6-Leads, Body 2.90x1.63mm, Pitch 0.95mm, IPC Medium Density)
footprint LT-S6-6-TSOT-23_L (SOT23, 6-Leads, Body 2.90x1.63mm, Pitch 0.95mm, IPC High Density)
footprint LT-S6-6-TSOT-23_M (SOT23, 6-Leads, Body 2.90x1.63mm, Pitch 0.95mm, IPC Low Density)
pins: 1 OUT (hiz), 2 V- (power), 3 +IN (in), 4 -IN (in), 5 ~{SHDN} (in), 6 V+ (power)

## LTC2050CS6#TRMPBF
designator U?
Single Channel, Zero-Drift Operational Amplifier, 3 MHz Typical GBW, 2 V/us Typical SR, 2.7 to 6 V, 6-Pin SOT23 (S6-6), Commercial, Pb-Free, Mini Reel; Linear Technology Part Number: LTC2050; Manufacturer: Linear Technology; PartNumber: LTC2050CS6#TRMPBF; Channels (#): 1; GBW (MHz) Typical: 3; Is (mA) Typical: 0.8; SR (V/us) Typical: 2; Vos (mV) Typical: 0.0005; Vs Max (V): 6; Vs Min (V): 2.7; DatasheetVersion: Rev C; PackageReference: LT-S6-6-TSOT-23; PackageDescription: 6-Pin Plastic TSOT-23, Body 2.9 x 1.63 mm, Pitch 0.95 mm; Supplier 1: Digi-Key; Supplier Part Number 1: LTC2050CS6#TRMPBF-ND; Packing: Mini Reel; RoHS: Pb-Free; Type: ZD; Mounting Technology: Surface Mount; Code_JEDEC: MO-193; ComponentLink1Description: Manufacturer URL; ComponentLink1URL: http://www.linear.com/; ComponentLink2Description: Datasheet; ComponentLink2URL: http://cds.linear.com/docs/en/datasheet/2050fc.pdf; ComponentLink3Description: Package Specification; ComponentLink3URL: http://cds.linear.com/docs/en/packaging/SOT_6_05-08-1636.pdf
footprint LT-S6-6-TSOT-23_N (SOT23, 6-Leads, Body 2.90x1.63mm, Pitch 0.95mm, IPC Medium Density)
footprint LT-S6-6-TSOT-23_L (SOT23, 6-Leads, Body 2.90x1.63mm, Pitch 0.95mm, IPC High Density)
footprint LT-S6-6-TSOT-23_M (SOT23, 6-Leads, Body 2.90x1.63mm, Pitch 0.95mm, IPC Low Density)
pins: 1 OUT (hiz), 2 V- (power), 3 +IN (in), 4 -IN (in), 5 ~{SHDN} (in), 6 V+ (power)

## LTC2050CS6#TRPBF
designator U?
Single Channel, Zero-Drift Operational Amplifier, 3 MHz Typical GBW, 2 V/us Typical SR, 2.7 to 6 V, 6-Pin SOT23 (S6-6), Commercial, Pb-Free, Reel; Linear Technology Part Number: LTC2050; Manufacturer: Linear Technology; PartNumber: LTC2050CS6#TRPBF; Channels (#): 1; GBW (MHz) Typical: 3; Is (mA) Typical: 0.8; SR (V/us) Typical: 2; Vos (mV) Typical: 0.0005; Vs Max (V): 6; Vs Min (V): 2.7; DatasheetVersion: Rev C; PackageReference: LT-S6-6-TSOT-23; PackageDescription: 6-Pin Plastic TSOT-23, Body 2.9 x 1.63 mm, Pitch 0.95 mm; Supplier 1: Digi-Key; Supplier Part Number 1: LTC2050CS6#TRPBF-ND; Packing: Reel; RoHS: Pb-Free; Type: ZD; Mounting Technology: Surface Mount; Code_JEDEC: MO-193; ComponentLink1Description: Manufacturer URL; ComponentLink1URL: http://www.linear.com/; ComponentLink2Description: Datasheet; ComponentLink2URL: http://cds.linear.com/docs/en/datasheet/2050fc.pdf; ComponentLink3Description: Package Specification; ComponentLink3URL: http://cds.linear.com/docs/en/packaging/SOT_6_05-08-1636.pdf
footprint LT-S6-6-TSOT-23_N (SOT23, 6-Leads, Body 2.90x1.63mm, Pitch 0.95mm, IPC Medium Density)
footprint LT-S6-6-TSOT-23_L (SOT23, 6-Leads, Body 2.90x1.63mm, Pitch 0.95mm, IPC High Density)
footprint LT-S6-6-TSOT-23_M (SOT23, 6-Leads, Body 2.90x1.63mm, Pitch 0.95mm, IPC Low Density)
pins: 1 OUT (hiz), 2 V- (power), 3 +IN (in), 4 -IN (in), 5 ~{SHDN} (in), 6 V+ (power)

## LTC2050CS8
designator U?
Single Channel, Zero-Drift Operational Amplifier, 3 MHz Typical GBW, 2 V/us Typical SR, 2.7 to 6 V, 8-Pin SOIC (S8-8), Commercial; Linear Technology Part Number: LTC2050; Manufacturer: Linear Technology; PartNumber: LTC2050CS8; Channels (#): 1; GBW (MHz) Typical: 3; Is (mA) Typical: 0.8; SR (V/us) Typical: 2; Vos (mV) Typical: 0.0005; Vs Max (V): 6; Vs Min (V): 2.7; DatasheetVersion: Rev C; PackageVersion: Rev G; PackageReference: LT-S8-8; PackageDescription: 8-Pin Plastic Small Outline, Body 4.9 x 3.9 mm, Pitch 1.27 mm; Supplier 1: Digi-Key; Supplier Part Number 1: LTC2050CS8-ND; Type: ZD; Mounting Technology: Surface Mount; ComponentLink1Description: Manufacturer URL; ComponentLink1URL: http://www.linear.com/; ComponentLink2Description: Datasheet; ComponentLink2URL: http://cds.linear.com/docs/en/datasheet/2050fc.pdf; ComponentLink3Description: Package Specification; ComponentLink3URL: http://cds.linear.com/docs/en/packaging/05081610_G_SO8.pdf
footprint LT-S8-8_N (SOIC, 8-Leads, Body 4.9x3.9mm, Pitch 1.27mm, IPC Medium Density)
footprint LT-S8-8_L (SOIC, 8-Leads, Body 4.9x3.9mm, Pitch 1.27mm, IPC High Density)
footprint LT-S8-8_M (SOIC, 8-Leads, Body 4.9x3.9mm, Pitch 1.27mm, IPC Low Density)
pins: 1 ~{SHDN} (in), 2 -IN (in), 3 +IN (in), 4 V- (power), 5 NC, 6 OUT (hiz), 7 V+ (power), 8 NC

## LTC2050CS8#PBF
designator U?
Single Channel, Zero-Drift Operational Amplifier, 3 MHz Typical GBW, 2 V/us Typical SR, 2.7 to 6 V, 8-Pin SOIC (S8-8), Commercial, Pb-Free; Linear Technology Part Number: LTC2050; Manufacturer: Linear Technology; PartNumber: LTC2050CS8#PBF; Channels (#): 1; GBW (MHz) Typical: 3; Is (mA) Typical: 0.8; SR (V/us) Typical: 2; Vos (mV) Typical: 0.0005; Vs Max (V): 6; Vs Min (V): 2.7; DatasheetVersion: Rev C; PackageVersion: Rev G; PackageReference: LT-S8-8; PackageDescription: 8-Pin Plastic Small Outline, Body 4.9 x 3.9 mm, Pitch 1.27 mm; Supplier 1: Digi-Key; Supplier Part Number 1: LTC2050CS8#PBF-ND; Supplier 2: Farnell; Supplier Part Number 2: 1330902; RoHS: Pb-Free; Type: ZD; Mounting Technology: Surface Mount; ComponentLink1Description: Manufacturer URL; ComponentLink1URL: http://www.linear.com/; ComponentLink2Description: Datasheet; ComponentLink2URL: http://cds.linear.com/docs/en/datasheet/2050fc.pdf; ComponentLink3Description: Package Specification; ComponentLink3URL: http://cds.linear.com/docs/en/packaging/05081610_G_SO8.pdf
footprint LT-S8-8_N (SOIC, 8-Leads, Body 4.9x3.9mm, Pitch 1.27mm, IPC Medium Density)
footprint LT-S8-8_L (SOIC, 8-Leads, Body 4.9x3.9mm, Pitch 1.27mm, IPC High Density)
footprint LT-S8-8_M (SOIC, 8-Leads, Body 4.9x3.9mm, Pitch 1.27mm, IPC Low Density)
pins: 1 ~{SHDN} (in), 2 -IN (in), 3 +IN (in), 4 V- (power), 5 NC, 6 OUT (hiz), 7 V+ (power), 8 NC

## LTC2050CS8#TR
designator U?
Single Channel, Zero-Drift Operational Amplifier, 3 MHz Typical GBW, 2 V/us Typical SR, 2.7 to 6 V, 8-Pin SOIC (S8-8), Commercial, Reel; Linear Technology Part Number: LTC2050; Manufacturer: Linear Technology; PartNumber: LTC2050CS8#TR; Channels (#): 1; GBW (MHz) Typical: 3; Is (mA) Typical: 0.8; SR (V/us) Typical: 2; Vos (mV) Typical: 0.0005; Vs Max (V): 6; Vs Min (V): 2.7; DatasheetVersion: Rev C; PackageVersion: Rev G; PackageReference: LT-S8-8; PackageDescription: 8-Pin Plastic Small Outline, Body 4.9 x 3.9 mm, Pitch 1.27 mm; Supplier 1: Digi-Key; Supplier Part Number 1: LTC2050CS8#TR-ND; Packing: Reel; Type: ZD; Mounting Technology: Surface Mount; ComponentLink1Description: Manufacturer URL; ComponentLink1URL: http://www.linear.com/; ComponentLink2Description: Datasheet; ComponentLink2URL: http://cds.linear.com/docs/en/datasheet/2050fc.pdf; ComponentLink3Description: Package Specification; ComponentLink3URL: http://cds.linear.com/docs/en/packaging/05081610_G_SO8.pdf
footprint LT-S8-8_N (SOIC, 8-Leads, Body 4.9x3.9mm, Pitch 1.27mm, IPC Medium Density)
footprint LT-S8-8_L (SOIC, 8-Leads, Body 4.9x3.9mm, Pitch 1.27mm, IPC High Density)
footprint LT-S8-8_M (SOIC, 8-Leads, Body 4.9x3.9mm, Pitch 1.27mm, IPC Low Density)
pins: 1 ~{SHDN} (in), 2 -IN (in), 3 +IN (in), 4 V- (power), 5 NC, 6 OUT (hiz), 7 V+ (power), 8 NC

## LTC2050CS8#TRPBF
designator U?
Single Channel, Zero-Drift Operational Amplifier, 3 MHz Typical GBW, 2 V/us Typical SR, 2.7 to 6 V, 8-Pin SOIC (S8-8), Commercial, Pb-Free, Reel; Linear Technology Part Number: LTC2050; Manufacturer: Linear Technology; PartNumber: LTC2050CS8#TRPBF; Channels (#): 1; GBW (MHz) Typical: 3; Is (mA) Typical: 0.8; SR (V/us) Typical: 2; Vos (mV) Typical: 0.0005; Vs Max (V): 6; Vs Min (V): 2.7; DatasheetVersion: Rev C; PackageVersion: Rev G; PackageReference: LT-S8-8; PackageDescription: 8-Pin Plastic Small Outline, Body 4.9 x 3.9 mm, Pitch 1.27 mm; Supplier 1: Digi-Key; Supplier Part Number 1: LTC2050CS8#TRPBF-ND; Packing: Reel; RoHS: Pb-Free; Type: ZD; Mounting Technology: Surface Mount; ComponentLink1Description: Manufacturer URL; ComponentLink1URL: http://www.linear.com/; ComponentLink2Description: Datasheet; ComponentLink2URL: http://cds.linear.com/docs/en/datasheet/2050fc.pdf; ComponentLink3Description: Package Specification; ComponentLink3URL: http://cds.linear.com/docs/en/packaging/05081610_G_SO8.pdf
footprint LT-S8-8_N (SOIC, 8-Leads, Body 4.9x3.9mm, Pitch 1.27mm, IPC Medium Density)
footprint LT-S8-8_L (SOIC, 8-Leads, Body 4.9x3.9mm, Pitch 1.27mm, IPC High Density)
footprint LT-S8-8_M (SOIC, 8-Leads, Body 4.9x3.9mm, Pitch 1.27mm, IPC Low Density)
pins: 1 ~{SHDN} (in), 2 -IN (in), 3 +IN (in), 4 V- (power), 5 NC, 6 OUT (hiz), 7 V+ (power), 8 NC

## LTC2050HS5
designator U?
Single Channel, Zero-Drift Operational Amplifier, 3 MHz Typical GBW, 2 V/us Typical SR, 2.7 to 6 V, 5-Pin SOT23 (S5-5), High Temperature / Automotive; Linear Technology Part Number: LTC2050; Manufacturer: Linear Technology; PartNumber: LTC2050HS5; Channels (#): 1; GBW (MHz) Typical: 3; Is (mA) Typical: 0.8; SR (V/us) Typical: 2; Vos (mV) Typical: 0.0005; Vs Max (V): 6; Vs Min (V): 2.7; DatasheetVersion: Rev C; PackageReference: LT-S5-5-TSOT-23; PackageDescription: 5-Lead Plastic TSOT-23, Body 1.63 x 2.90 mm, Pitch 0.95 mm; Type: ZD; Mounting Technology: Surface Mount; Code_JEDEC: MO-193; ComponentLink1Description: Manufacturer URL; ComponentLink1URL: http://www.linear.com/; ComponentLink2Description: Datasheet; ComponentLink2URL: http://cds.linear.com/docs/en/datasheet/2050fc.pdf; ComponentLink3Description: Package Specification; ComponentLink3URL: http://cds.linear.com/docs/en/packaging/SOT_5_05-08-1635.pdf
footprint LT-S5-5-TSOT-23_N (SOT23, 5-Leads, Body 2.90x1.63mm, Pitch 0.95mm, IPC Medium Density)
footprint LT-S5-5-TSOT-23_L (SOT23, 5-Leads, Body 2.90x1.63mm, Pitch 0.95mm, IPC High Density)
footprint LT-S5-5-TSOT-23_M (SOT23, 5-Leads, Body 2.90x1.63mm, Pitch 0.95mm, IPC Low Density)
pins: 1 OUT (out) "Output.", 2 V- (power) "Negative Supply Voltage, Usually -5V.", 3 +IN (in) "Noninverting Input.", 4 -IN (in) "Inverting Input.", 5 V+ (power) "Positive Supply Voltage, Usually 5V."

## LTC2050HS5#PBF
designator U?
Single Channel, Zero-Drift Operational Amplifier, 3 MHz Typical GBW, 2 V/us Typical SR, 2.7 to 6 V, 5-Pin SOT23 (S5-5), High Temperature / Automotive, Pb-Free; Linear Technology Part Number: LTC2050; Manufacturer: Linear Technology; PartNumber: LTC2050HS5#PBF; Channels (#): 1; GBW (MHz) Typical: 3; Is (mA) Typical: 0.8; SR (V/us) Typical: 2; Vos (mV) Typical: 0.0005; Vs Max (V): 6; Vs Min (V): 2.7; DatasheetVersion: Rev C; PackageReference: LT-S5-5-TSOT-23; PackageDescription: 5-Lead Plastic TSOT-23, Body 1.63 x 2.90 mm, Pitch 0.95 mm; Supplier 1: Farnell; Supplier Part Number 1: 2294714; RoHS: Pb-Free; Type: ZD; Mounting Technology: Surface Mount; Code_JEDEC: MO-193; ComponentLink1Description: Manufacturer URL; ComponentLink1URL: http://www.linear.com/; ComponentLink2Description: Datasheet; ComponentLink2URL: http://cds.linear.com/docs/en/datasheet/2050fc.pdf; ComponentLink3Description: Package Specification; ComponentLink3URL: http://cds.linear.com/docs/en/packaging/SOT_5_05-08-1635.pdf
footprint LT-S5-5-TSOT-23_N (SOT23, 5-Leads, Body 2.90x1.63mm, Pitch 0.95mm, IPC Medium Density)
footprint LT-S5-5-TSOT-23_L (SOT23, 5-Leads, Body 2.90x1.63mm, Pitch 0.95mm, IPC High Density)
footprint LT-S5-5-TSOT-23_M (SOT23, 5-Leads, Body 2.90x1.63mm, Pitch 0.95mm, IPC Low Density)
pins: 1 OUT (out) "Output.", 2 V- (power) "Negative Supply Voltage, Usually -5V.", 3 +IN (in) "Noninverting Input.", 4 -IN (in) "Inverting Input.", 5 V+ (power) "Positive Supply Voltage, Usually 5V."